# Altium schematic symbol library ATMEGA328P-MUR.SchLib: 1 symbol
Pins are listed as number, name and electrical type; pins without a type are passive.

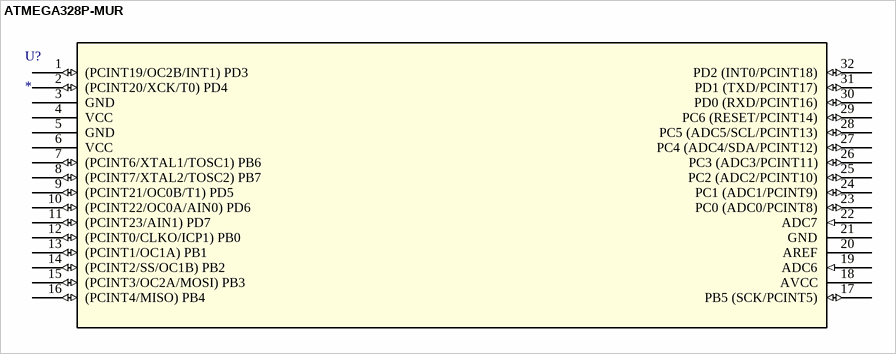
[diagram p0: symbol ATMEGA328P-MUR]

## ATMEGA328P-MUR
designator U?
No Description Available; Mfr_Name: Microchip; RefDes: RefDes; Type: Type
footprint 32M1-A_ATM
pins: 1 (PCINT19/OC2B/INT1) PD3 (io), 2 (PCINT20/XCK/T0) PD4 (io), 3 GND (power), 4 VCC (power), 5 GND (power), 6 VCC (power), 7 (PCINT6/XTAL1/TOSC1) PB6 (io), 8 (PCINT7/XTAL2/TOSC2) PB7 (io), 9 (PCINT21/OC0B/T1) PD5 (io), 10 (PCINT22/OC0A/AIN0) PD6 (io), 11 (PCINT23/AIN1) PD7 (io), 12 (PCINT0/CLKO/ICP1) PB0 (io), 13 (PCINT1/OC1A) PB1 (io), 14 (PCINT2/SS/OC1B) PB2 (io), 15 (PCINT3/OC2A/MOSI) PB3 (io), 16 (PCINT4/MISO) PB4 (io), 17 PB5 (SCK/PCINT5) (io), 18 AVCC (power), 19 ADC6 (in), 20 AREF, 21 GND (power), 22 ADC7 (in), 23 PC0 (ADC0/PCINT8) (io), 24 PC1 (ADC1/PCINT9) (io), 25 PC2 (ADC2/PCINT10) (io), 26 PC3 (ADC3/PCINT11) (io), 27 PC4 (ADC4/SDA/PCINT12) (io), 28 PC5 (ADC5/SCL/PCINT13) (io), 29 PC6 (RESET/PCINT14) (io), 30 PD0 (RXD/PCINT16) (io), 31 PD1 (TXD/PCINT17) (io), 32 PD2 (INT0/PCINT18) (io)